# Altium schematic symbol library Микродроссели.SCHLIB: 12 symbols
Pins are listed as number, name and electrical type; pins without a type are passive.

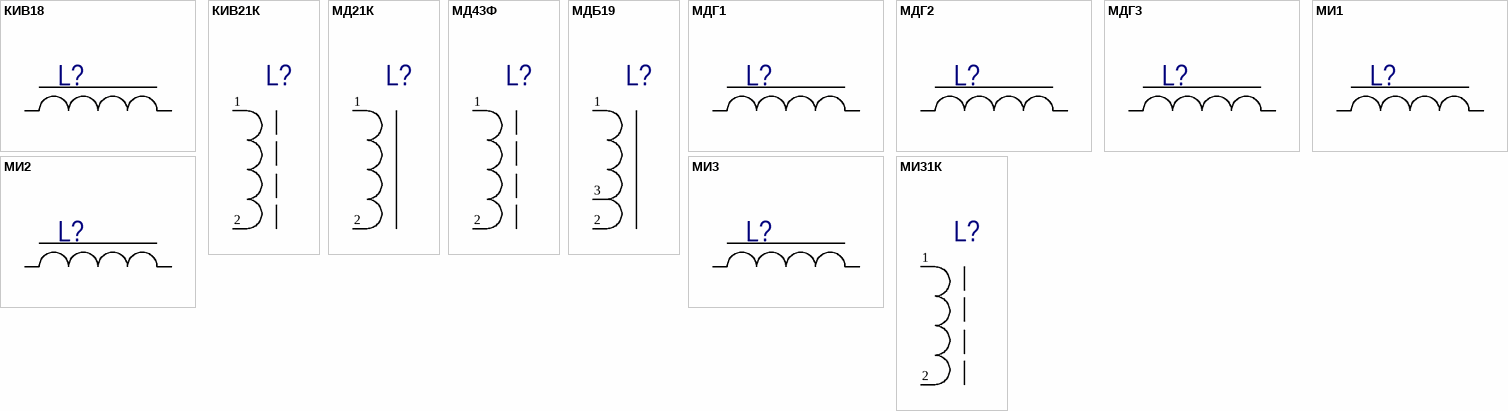
[diagram p0: symbols КИВ18 to МИ31К]

## КИВ18
designator L?
КИВ18; Manufacturer: ПАО  «МСТАТОР»; ManufacturerCountry: Россия; Value: {Value}; Наименование элемента: Дроссель; Category: Дроссель; ComponentLink1Description: Manufacturer Link
footprint КИВ18
pins: 1, 2

## КИВ21К
designator L?
КИВ21К; Manufacturer: ПАО  «МСТАТОР»; ManufacturerCountry: Россия; Value: {Value}; Наименование элемента: Дроссель; Category: Дроссель; ComponentLink1Description: Manufacturer Link
footprint КИВ21К
pins: 1, 2

## МД21К
designator L?
МД21К; Manufacturer: ПАО  «МСТАТОР»; ManufacturerCountry: Россия; Value: {Value}; Наименование элемента: Дроссель; Category: Дроссель; ComponentLink1Description: Manufacturer Link
footprint МД21К
pins: 1, 2

## МД43Ф
designator L?
МД43Ф; Manufacturer: ПАО  «МСТАТОР»; ManufacturerCountry: Россия; Value: {Value}; Наименование элемента: Дроссель; Category: Дроссель; ComponentLink1Description: Manufacturer Link
footprint МД43Ф
pins: 1, 2

## МДБ19
designator L?
МДБ19; Manufacturer: ПАО  «МСТАТОР»; ManufacturerCountry: Россия; Value: {Value}; Наименование элемента: Дроссель; Category: Дроссель; ComponentLink1Description: Manufacturer Link
footprint МДБ19
pins: 1, 2, 3

## МДГ1
designator L?
МДГ1; Manufacturer: ПАО  «МСТАТОР»; ManufacturerCountry: Россия; Value: {Value}; Наименование элемента: Дроссель; Category: Дроссель; ComponentLink1Description: Manufacturer Link
footprint МДГ1
pins: 1, 2

## МДГ2
designator L?
МДГ2; Manufacturer: ПАО  «МСТАТОР»; ManufacturerCountry: Россия; Value: {Value}; Наименование элемента: Дроссель; Category: Дроссель; ComponentLink1Description: Manufacturer Link
footprint МДГ2
pins: 1, 2

## МДГ3
designator L?
МДГ3; Manufacturer: ПАО  «МСТАТОР»; ManufacturerCountry: Россия; Value: {Value}; Наименование элемента: Дроссель; Category: Дроссель; ComponentLink1Description: Manufacturer Link
footprint МДГ3
pins: 1, 2

## МИ1
designator L?
МИ1; Manufacturer: ПАО  «МСТАТОР»; ManufacturerCountry: Россия; Value: {Value}; Наименование элемента: Дроссель; Category: Дроссель; ComponentLink1Description: Manufacturer Link
footprint МИ1
pins: 1, 2

## МИ2
designator L?
МИ2; Manufacturer: ПАО  «МСТАТОР»; ManufacturerCountry: Россия; Value: {Value}; Наименование элемента: Дроссель; Category: Дроссель; ComponentLink1Description: Manufacturer Link
footprint МИ2
pins: 1, 2

## МИ3
designator L?
МИ3; Manufacturer: ПАО  «МСТАТОР»; ManufacturerCountry: Россия; Value: {Value}; Наименование элемента: Дроссель; Category: Дроссель; ComponentLink1Description: Manufacturer Link
footprint МИ3
pins: 1, 2

## МИ31К
designator L?
МИ31К; Manufacturer: ПАО  «МСТАТОР»; ManufacturerCountry: Россия; Value: {Value}; Наименование элемента: Дроссель; Category: Дроссель; ComponentLink1Description: Manufacturer Link
footprint МИ31К
pins: 1, 2